# Altium footprint library Resistors.PcbLib: 40 footprints (part 1 of 3)
Each footprint in its own frame and in the unit in brackets; x right, y up, seen from the top. Pads: shape width x height; smd on the part's side, far side on the other; paste and mask are expansions set on the pad; w line width, h text height; cw(c..) or ccw(c..) is an arc to the next point about the centre after c.
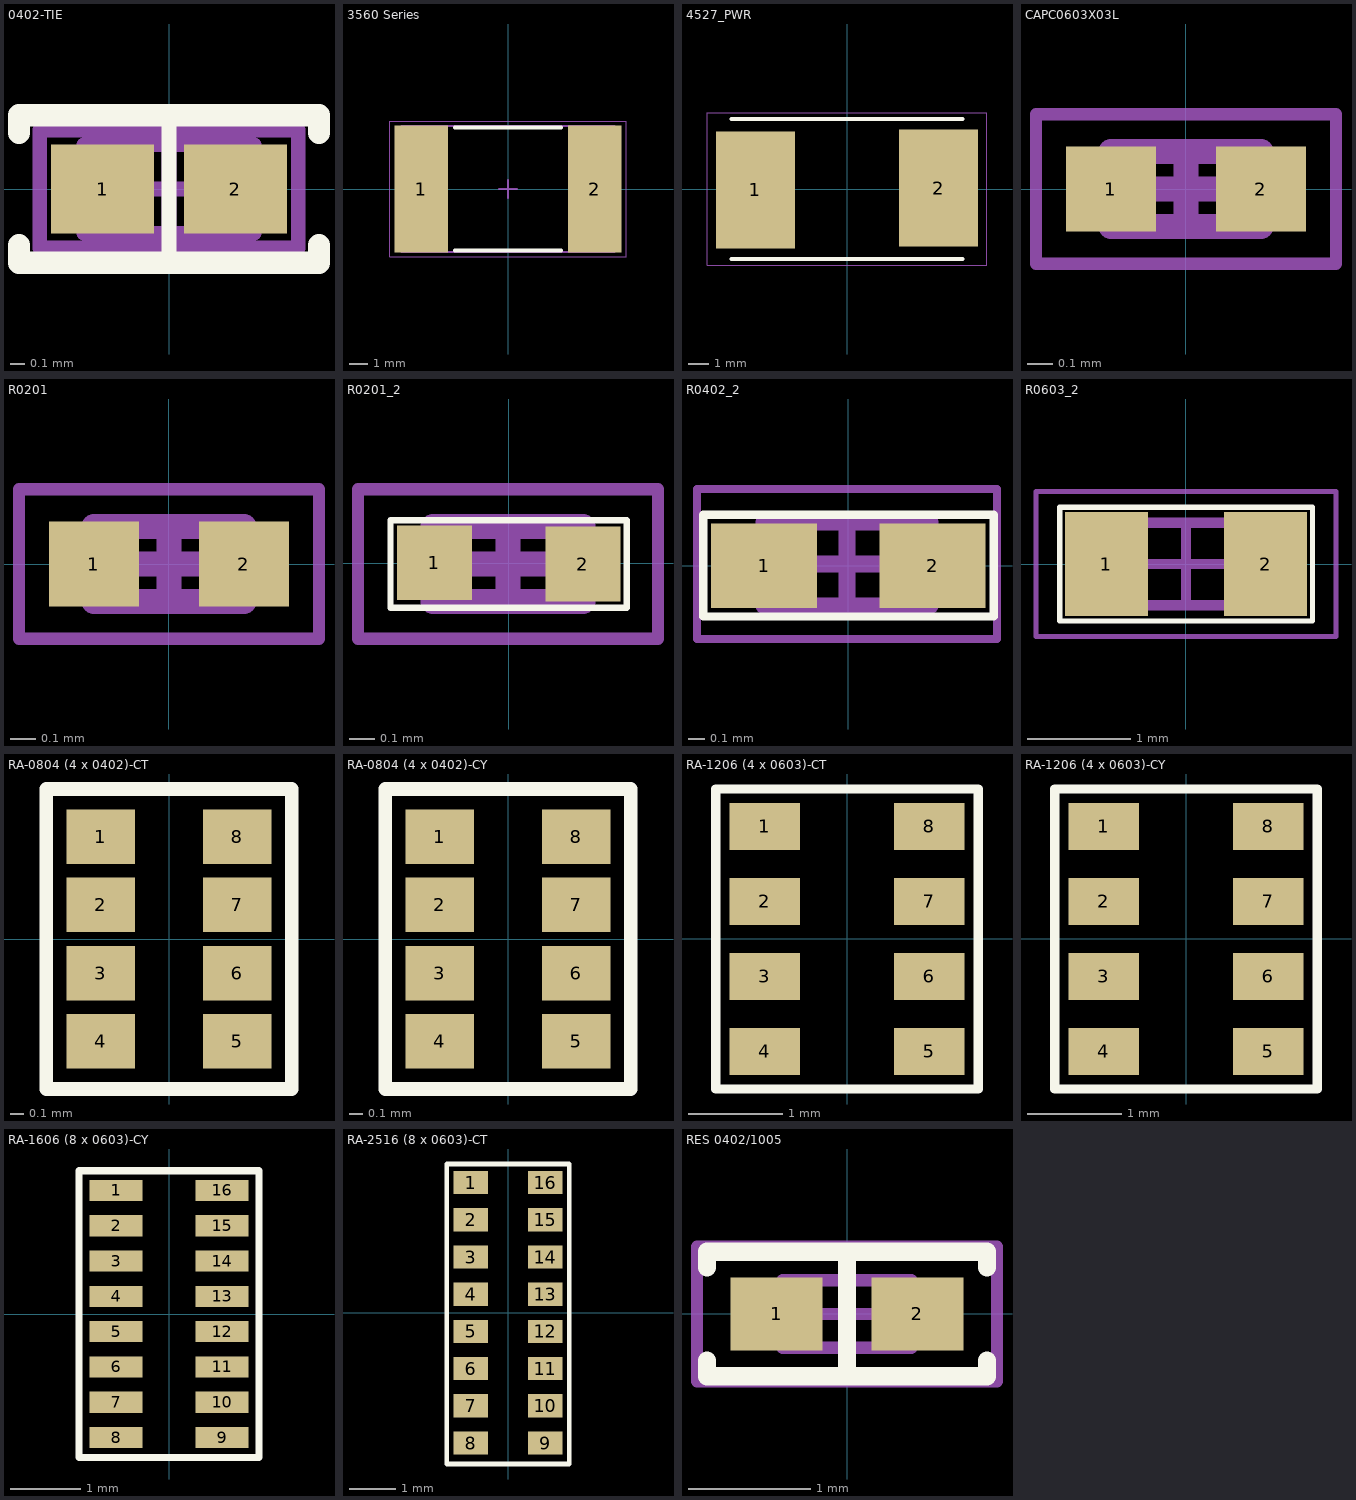
[diagram p0: the footprints below, top view; thin cyan lines are the x and y axes]

## 0402-TIE [mm]
pads (2):
  rect 0.7x0.6 smd: 1(-0.45,0) 2(0.45,0)
Top Overlay:
  lines w0.1: 0,-0.508 0,0.508
  lines w0.15: -1.016,-0.381 -1.016,-0.5 1.016,-0.5 1.016,-0.381 ; -1.016,0.381 -1.016,0.5 1.016,0.5 1.016,0.381
Mechanical 13:
  lines w0.1: -0.575,-0.3 -0.575,0.3 0.575,0.3 0.575,-0.3 -0.575,-0.3
Mechanical 15:
  lines w0.1: -0.3,0 0.3,0 ; 0,-0.3 0,0.3 ; -0.875,-0.4 -0.875,0.4 0.875,0.4 0.875,-0.4 -0.875,-0.4
3D body "0402 resistor.STEP": height 0.35, standoff 0, extent -0.5,-0.25 0.5,0.25

## 2818_PWR [mm]
3D body "WSHP2818.stp": height 1.35, standoff -0.15, extent -3.55,-2.159 3.55,2.441

## 3560 Series [mm] "Chip Resistor, 2-Leads, Body 11,60x6,85mm, IPC Medium Density"
height 1.1
pads (2):
  rect 2.9x6.9 smd: 1(-4.725,0) 2(4.725,0)
Top Overlay:
  lines w0.2: -2.9,-3.35 2.9,-3.35 ; -2.9,3.35 2.9,3.35
Mechanical 13:
  lines w0.1: -5.8,-3.425 5.8,-3.425 5.8,3.425 -5.8,3.425 -5.8,-3.425
Mechanical 15:
  lines w0.05: -6.45,-3.7 6.45,-3.7 6.45,3.7 -6.45,3.7 -6.45,-3.7
  lines w0.1: -0.5,0 0.5,0 ; 0,-0.5 0,0.5
3D body "3560 Series.step": height 0, standoff 0, extent 0,0 0,0

## 4527_PWR [mm]
pads (2):
  rect 3.94x5.84 smd: 1(-4.575,-0.048) 2(4.575,0.048)
Top Overlay:
  lines w0.2: -5.78,-3.493 5.78,-3.493 ; -5.78,3.492 5.78,3.492
Mechanical 15:
  lines w0.05: -6.985,-3.81 -6.985,3.81 6.985,3.81 6.985,-3.81 -6.985,-3.81
3D body "WSR5.stp": height 2.41, standoff 0, extent -5.78,-3.493 5.78,3.492

## CAPC0603X03L [mm] "Chip Capacitor, 2-Leads, Body 0,60x0,30mm, IPC High Density"
height 0.3
pads (2):
  rect 0.36x0.34 smd: 1(-0.3,0) 2(0.3,0)
Mechanical 13:
  lines w0.1: -0.3,-0.15 0.3,-0.15 0.3,0.15 -0.3,0.15 -0.3,-0.15
Mechanical 15:
  lines w0.05: -0.6,-0.3 0.6,-0.3 0.6,0.3 -0.6,0.3 -0.6,-0.3
  lines w0.1: -0.15,0 0.15,0 ; 0,-0.15 0,0.15
3D body "CAPC0603X03L.step": height 0.3, standoff 0, extent -0.3,-0.15 0.3,0.15

## R0201 [mm]
pads (2):
  rect 0.36x0.34 smd: 1(-0.3,0) 2(0.3,0)
Mechanical 13:
  lines w0.1: -0.3,-0.15 0.3,-0.15 0.3,0.15 -0.3,0.15 -0.3,-0.15
Mechanical 15:
  lines w0.05: -0.6,-0.3 0.6,-0.3 0.6,0.3 -0.6,0.3 -0.6,-0.3
  lines w0.1: -0.15,0 0.15,0 ; 0,-0.15 0,0.15
3D body "User Library-res0201-1 (1).step": height 0.23, standoff 0, extent -0.302,-0.15 0.298,0.15

## R0201_2 [mm]
pads (2):
  rect 0.3x0.3 smd: 1(-0.297,0.003) 2(0.297,-0.003)
Top Overlay:
  lines w0.025: -0.472,-0.178 -0.472,0.173 0.472,0.173 0.472,-0.178 -0.472,-0.178
Mechanical 13:
  lines w0.1: -0.303,-0.153 -0.303,0.147 0.297,0.147 0.297,-0.153 -0.303,-0.153
Mechanical 15:
  lines w0.05: -0.603,-0.303 -0.603,0.297 0.597,0.297 0.597,-0.303 -0.603,-0.303
  lines w0.1: -0.153,-0.003 0.147,-0.003 ; -0.003,-0.153 -0.003,0.147
3D body "User Library-res0201-1 (1).step": height 0.22, standoff -0.01, extent -0.305,-0.152 0.295,0.148

## R0402_2 [mil]
pads (2):
  rect 25x20 smd: 1(-19.9,0) 2(19.9,0)
Top Overlay:
  lines w2: -34.3,-12 34.4,-12 34.4,12 -34.3,12 -34.3,-12
Mechanical 13:
  lines w3.94: -19.98,-9.44 19.39,-9.44 19.39,10.24 -19.98,10.24 -19.98,-9.44
Mechanical 15:
  lines w1.97: -35.73,-17.32 35.13,-17.32 35.13,18.12 -35.73,18.12 -35.73,-17.32
  lines w3.94: -10.14,0.4 9.54,0.4 ; -0.3,-9.44 -0.3,10.24
3D body "RESC1005X03N[0402].step": height 11.81, standoff 0, extent -19.98,-9.44 19.39,10.24

## R0603_2 [mil]
pads (2):
  rect 31.5x39.4 smd: 1(-30.3,0) 2(30.3,0)
Top Overlay:
  lines w2: -48,-21.7 48.1,-21.7 48.1,21.6 -48,21.6 -48,-21.7
Mechanical 13:
  lines w3.94: -31.49,-15.75 -31.49,15.75 31.5,15.75 31.5,-15.75 -31.49,-15.75
Mechanical 15:
  lines w1.97: -57.09,-27.56 -57.09,27.56 57.09,27.56 57.09,-27.56 -57.09,-27.56
  lines w3.94: -15.75,0 15.75,0 ; 0,-15.75 0,15.75
3D body "RESC1608X05N[0603].step": height 19.68, standoff 0, extent -31.49,-15.75 31.5,15.75

## RA-0804 (4 x 0402)-CT [mm]
pads (8):
  rect 0.5x0.4 smd: 1(-0.5,0.75) 2(-0.5,0.25) 3(-0.5,-0.25) 4(-0.5,-0.75) 5(0.5,-0.75) 6(0.5,-0.25) 7(0.5,0.25) 8(0.5,0.75)
Top Overlay:
  lines w0.1: -0.9,-1.1 0.9,-1.1 0.9,1.1 -0.9,1.1 -0.9,-1.1
3D body "User Library-741C083.step": height 0.35, standoff -0.03, extent -0.502,-1 0.502,1

## RA-0804 (4 x 0402)-CY [mm]
pads (8):
  rect 0.5x0.4 smd: 1(-0.5,0.75) 2(-0.5,0.25) 3(-0.5,-0.25) 4(-0.5,-0.75) 5(0.5,-0.75) 6(0.5,-0.25) 7(0.5,0.25) 8(0.5,0.75)
Top Overlay:
  lines w0.1: -0.9,-1.1 0.9,-1.1 0.9,1.1 -0.9,1.1 -0.9,-1.1
3D body "User Library-YC124-1.step": height 0.45, standoff 0, extent -0.5,-1 0.5,1

## RA-1206 (4 x 0603)-CT [mm]
pads (8):
  rect 0.75x0.5 smd: 1(-0.876,1.2) 2(-0.876,0.4) 3(-0.876,-0.4) 4(-0.876,-1.2) 5(0.876,-1.2) 6(0.876,-0.4) 7(0.876,0.4) 8(0.876,1.2)
Top Overlay:
  lines w0.1: -1.4,-1.6 1.4,-1.6 1.4,1.6 -1.4,1.6 -1.4,-1.6
3D body "Array-1206-4Way-Var1.STEP": height 0.5, standoff 0, extent -0.8,-1.6 0.8,1.6

## RA-1206 (4 x 0603)-CY [mm]
pads (8):
  rect 0.75x0.5 smd: 1(-0.876,1.2) 2(-0.876,0.4) 3(-0.876,-0.4) 4(-0.876,-1.2) 5(0.876,-1.2) 6(0.876,-0.4) 7(0.876,0.4) 8(0.876,1.2)
Top Overlay:
  lines w0.1: -1.4,-1.6 1.4,-1.6 1.4,1.6 -1.4,1.6 -1.4,-1.6
3D body "User Library-Array-1206-4Way-Var2-1.STEP": height 0.5, standoff 0, extent -0.8,-1.6 0.8,1.6

## RA-1606 (8 x 0603)-CY [mm]
pads (16):
  rect 0.75x0.3 smd: 1(-0.75,1.75) 2(-0.75,1.25) 3(-0.75,0.75) 4(-0.75,0.25) 5(-0.75,-0.25) 6(-0.75,-0.75) 7(-0.75,-1.25) 8(-0.75,-1.75) 9(0.75,-1.75) 10(0.75,-1.25) 11(0.75,-0.75) 12(0.75,-0.25) 13(0.75,0.25) 14(0.75,0.75) 15(0.75,1.25) 16(0.75,1.75)
Top Overlay:
  lines w0.1: -1.274,-2.035 -1.274,2.029 1.27,2.029 1.27,-2.035 -1.274,-2.035
3D body "User Library-YC248-1.step": height 0.45, standoff 0, extent -0.8,-2 0.8,2

## RA-2516 (8 x 0603)-CT [mm]
pads (16):
  rect 0.75x0.5 smd: 1(-0.8,2.8) 2(-0.8,2) 3(-0.8,1.2) 4(-0.8,0.4) 5(-0.8,-0.4) 6(-0.8,-1.2) 7(-0.8,-2) 8(-0.8,-2.8) 9(0.8,-2.8) 10(0.8,-2) 11(0.8,-1.2) 12(0.8,-0.4) 13(0.8,0.4) 14(0.8,1.2) 15(0.8,2) 16(0.8,2.8)
Top Overlay:
  lines w0.1: -1.321,-3.251 -1.321,3.2 1.321,3.2 1.321,-3.251 -1.321,-3.251
3D body "User Library-742C163.step": height 0.53, standoff -0.03, extent -0.8,-3.2 0.8,3.2

## RES 0402/1005 [mm] "Chip Resistor, 2-Leads, Body 1.0x0.5mm, IPC Medium Density"
height 0.4
pads (2):
  rect 0.75x0.6 smd: 1(-0.575,0) 2(0.575,0)
Top Overlay:
  lines w0.15: -1.143,-0.381 -1.143,-0.508 1.143,-0.508 1.143,-0.381 ; -1.143,0.381 -1.143,0.508 1.143,0.508 1.143,0.381 ; 0,-0.508 0,0.508
Mechanical 13:
  lines w0.1: -0.525,-0.275 0.525,-0.275 0.525,0.275 -0.525,0.275 -0.525,-0.275
Mechanical 15:
  lines w0.1: -0.275,0 0.275,0 ; 0,-0.275 0,0.275 ; -1.225,-0.55 1.225,-0.55 1.225,0.55 -1.225,0.55 -1.225,-0.55
3D body "0402 resistor.STEP": height 0.35, standoff 0, extent -0.5,-0.25 0.5,0.25